# EAGLE library part 615008150021 (library Eagle_WR-MJ (rev23b))
WR-MJ Modular Jack THT Horizontal Mid-Mount Plastic Tab Up General Information Operating Temperature:-40 up to +85 °C Compliance: Lead free / RoHS Electrical Properties Working Voltage:125V (AC) Withstanding Voltage:1000V (AC) Contact Resistance:20mΩ RISO:1000 MΩ Material Properties Insulator MateriaL:LCP Insulator Flammability Rating:UL94 V-0 Color:Black Contact Material Copper Alloy Contact Plating:Gold Contact Type:Stamped Packaging Properties Packaging:Tray <https://www.we-online.com/catalog/media/o135222v209%20Family_WR-MJ_615008150021.jpg> Details see: https://www.we-online.com/catalog/en/MJ_THT_HORIZONTAL_MID_MOUNT_PLASTIC_TAB_UP/ Updated by Yingchun,Shan 2020-01-07 2020 (C) Würth Elektronik
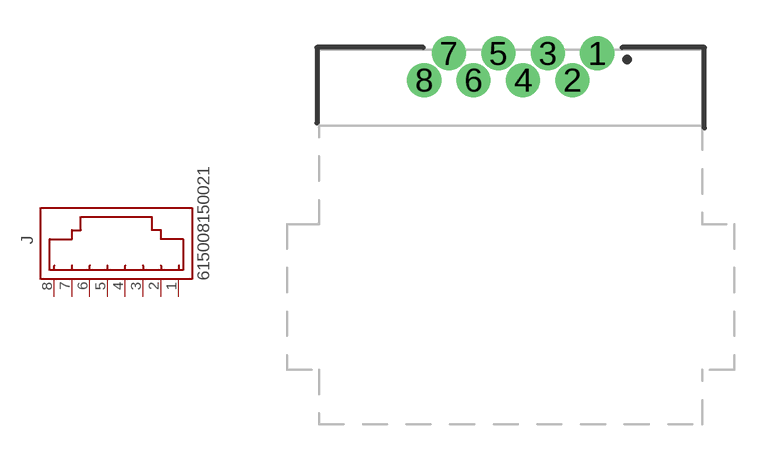
[diagram p74: symbol with the pads of 615008150021; footprint 615008150021]

Designator prefix J

## 615008150021 (DATASHEET-URL: https://www.we-online.com/redexpert/spec/615008150021?ae; MOUNT: THT; PART-NUMBER: 615008150021; TYPE: Right Angle; VALUE: 615008150021; XPXC: 8P8C)  [615008150021]
1  1  pas
2  2  pas
3  3  pas
4  4  pas
5  5  pas
6  6  pas
7  7  pas
8  8  pas

## Footprint 615008150021 (pad centres in mm)
WR-MJ Modular Jack THT Horizontal Mid-Mount Plastic Tab Up
drill 0.9: 1 3.57,7.575; 2 2.55,6.475; 3 1.53,7.575; 4 0.51,6.475; 5 -0.51,7.575; 6 -1.53,6.475; 7 -2.55,7.575; 8 -3.57,6.475